# Altium integrated library HienNQ_Connector.IntLib: 24 symbols (part 2 of 2)

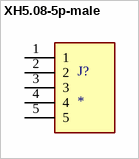
[diagram p23: symbol XH5.08-5p-male]

## XH5.08-5p-male
designator J?
1744037-5 - 05P EC PWR.200 CL HDR ASSY VRT; MF: TE Connectivity; SnapEDA_Link: https://www.snapeda.com/parts/1744037-5/TE%20Connectivity/view-part/1437251/?ref=snap; MP: 1744037-5; Availability: Unavailable; Price: None; Value: *; Package: None
footprint XH5.08-5p-male
pins: 1, 2, 3, 4, 5